# Altium footprint library 10ohm1Turn_pot.PcbLib: 1 footprints
Each footprint in its own frame and in the unit in brackets; x right, y up, seen from the top. Pads: shape width x height; smd on the part's side, far side on the other; paste and mask are expansions set on the pad; w line width, h text height; cw(c..) or ccw(c..) is an arc to the next point about the centre after c.
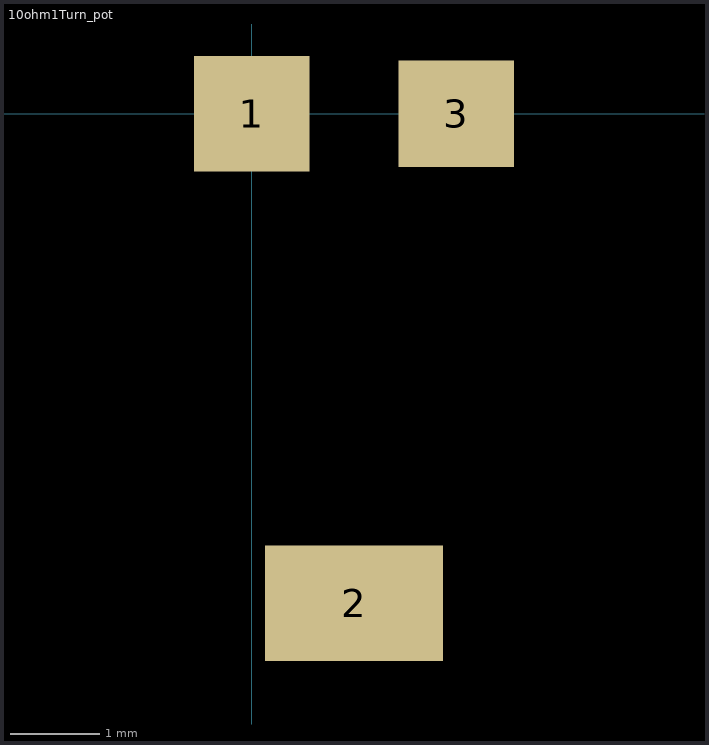
[diagram p0: the footprint, top view; thin cyan lines are the x and y axes]

## 10ohm1Turn_pot [mm]
pads (3):
  rect 1.3x1.3 smd: 1(0,0)
  rect 2x1.3 smd: 2(1.15,-5.5)
  rect 1.3x1.2 smd: 3(2.3,0)
3D body "3314G1.stp": height 2.75, standoff 0.03, extent -1.443,-5.766 3.556,0.432